# Altium schematic symbol library SCH - RF - CONNECTOR - QUADRAXIAL JACK.SCHLIB: 1 symbol
Pins are listed as number, name and electrical type; pins without a type are passive.

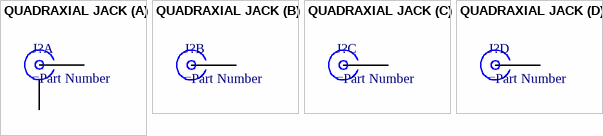
[diagram p0: symbol QUADRAXIAL JACK]

## QUADRAXIAL JACK
designator J?
part A pins: 1 SIGNAL, G GND
part B pins: 2 SIGNAL
part C pins: 3 SIGNAL
part D pins: 4 SIGNAL